# Altium footprint library rcl@1.PCBLIB: 487 footprints (part 19 of 31)
Each footprint in its own frame and in the unit in brackets; x right, y up, seen from the top. Pads: shape width x height; smd on the part's side, far side on the other; paste and mask are expansions set on the pad; w line width, h text height; cw(c..) or ccw(c..) is an arc to the next point about the centre after c.
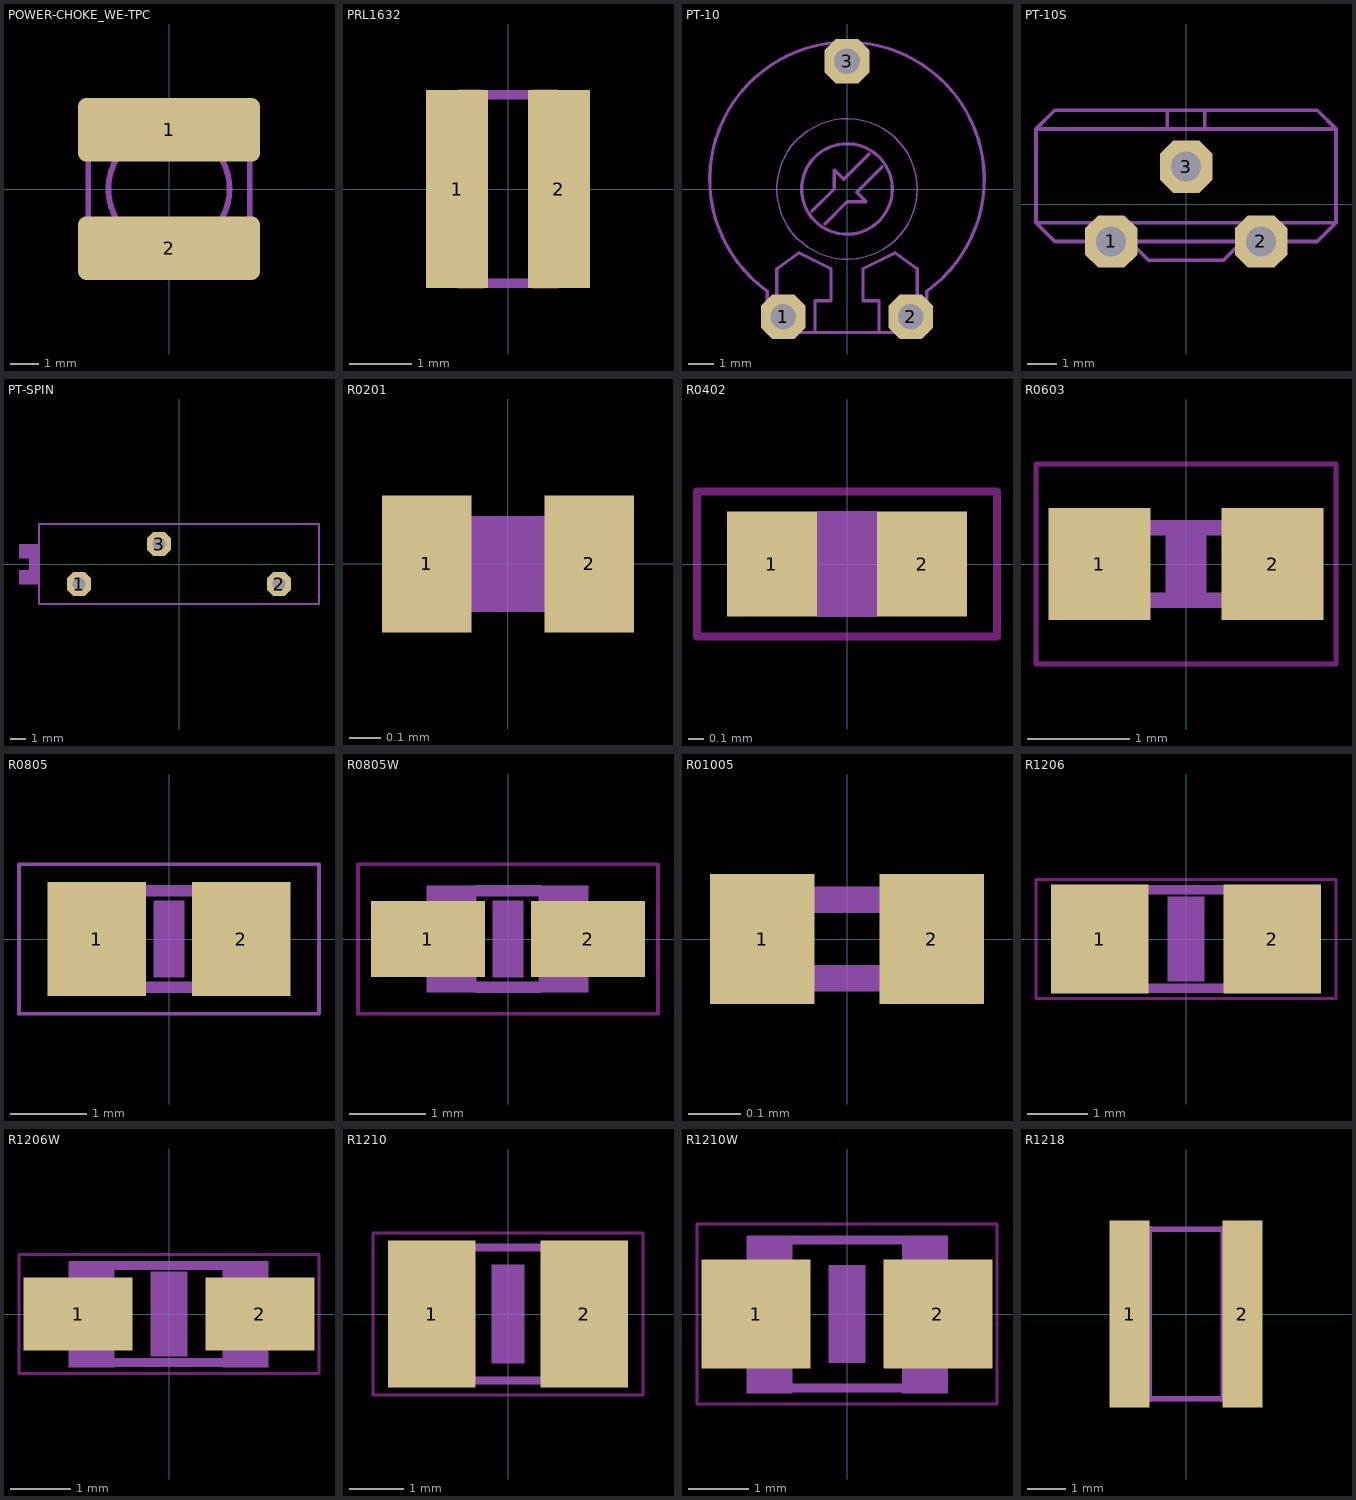
[diagram p18: the footprints below, top view; thin cyan lines are the x and y axes]

## POWER-CHOKE_WE-TPC [mil]
pads (2):
  rrect25% 248.03x86.61 smd: 1(0,80.71) 2(0,-80.71)
tDocu:
  circle w7.87: c0,0 r82.68
  lines w7.87: -110.24,-90.55 ccw(c-90.55,-90.55) -90.55,-110.24 90.55,-110.24 ccw(c90.55,-90.55) 110.24,-90.55 110.24,90.55 ccw(c90.55,90.55) 90.55,110.24 -90.55,110.24 ccw(c-90.55,90.55) -110.24,90.55 -110.24,-90.55
tPlace:
  lines w7.87: -110.24,-25.59 -110.24,25.59 ; -78.74,-25.59 cw(c0,0) -78.74,25.59 ; 78.74,-25.59 ccw(c0,0) 78.74,25.59 ; 110.24,-25.59 110.24,25.59

## PRL1632 [mm]
pads (2):
  rect 1x3.2 smd: 1(-0.822,0) 2(0.822,0)
tDocu:
  region: -0.8,-1.6 -0.8,1.6 -0.4,1.6 -0.4,-1.6
  region: 0.4,-1.6 0.4,1.6 0.8,1.6 0.8,-1.6
  lines w0.152: -0.728,-1.523 0.727,-1.523 ; -0.715,1.523 0.727,1.523

## PT-10 [mil]
pads (3):
  oct 70x70 / inner round 64.67 / far side oct 70x70 hole 40: 1(-100,-200) 2(100,-200) 3(0,200)
tDocu:
  lines w5: -125,-160 -125,-225 125,-225 125,-160 ; -110,-225 -110,-125 ; 110,-225 110,-125
tPlace:
  circle w5: c0,0 r71
  circle w2: c0,0 r110
  lines w5: -125,-160 cw(c0,15) 125,-160 ; -110,-125 -75,-100 -25,-125 -25,-175 -50,-175 -50,-225 ; -55,-35 -20,0 -20,30 -5,15 35,55 ; -35,-55 0,-20 30,-20 15,-5 55,35 ; 50,-225 50,-175 25,-175 25,-125 75,-100 110,-125

## PT-10S [mil]
pads (3):
  oct 70x70 / inner round 64.67 / far side oct 70x70 hole 40: 1(-100,-50) 2(100,-50) 3(0,50)
tDocu:
  lines w5: -200,-25 200,-25 ; -175,-50 175,-50 ; -75,-50 -50,-75 ; 50,-75 75,-50
tPlace:
  lines w5: -175,-50 -200,-25 -200,100 ; -50,-75 50,-75 ; -25,100 -25,125 ; 25,100 25,125 ; 175,-50 200,-25 200,100 ; -200,100 -175,125 175,125 200,100 ; -200,100 200,100

## PT-SPIN [mil]
pads (3):
  oct 60x60 / inner round 55.43 / far side oct 60x60 hole 32: 1(-250,-50) 2(250,-50) 3(-50,50)
tPlace:
  region: -375,-50 -375,50 -350,50 -350,-50
  region: -400,15 -400,50 -375,50 -375,15
  region: -400,-50 -400,-15 -375,-15 -375,-50
  lines w5: -350,-100 350,-100 350,100 -350,100 -350,-100

## R0201 [mm]
pads (2):
  rect 0.28x0.43 smd: 1(-0.255,0) 2(0.255,0)
tDocu:
  region: -0.3,-0.15 -0.3,0.15 -0.15,0.15 -0.15,-0.15
  region: 0.15,-0.15 0.15,0.15 0.3,0.15 0.3,-0.15
tPlace:
  region: -0.15,-0.15 -0.15,0.15 0.15,0.15 0.15,-0.15

## R0402 [mil]
pads (2):
  rect 23.62x27.56 smd: 1(-19.69,0) 2(19.69,0)
Top keep-out:
  lines w2: -39.37,-19.02 39.37,-19.02 39.37,19.02 -39.37,19.02 -39.37,-19.02
tDocu:
  region: -21.81,-12 -21.81,11.62 -10,11.62 -10,-12
  region: 10.19,-12 10.19,11.62 22,11.62 22,-12
  lines w6: -9.65,-8.82 9.65,-8.82 ; -9.65,8.82 9.65,8.82
tGlue:
  region: -7.87,-13.78 -7.87,13.78 7.87,13.78 7.87,-13.78

## R0603 [mm]
pads (2):
  rect 1x1.1 smd: 1(-0.85,0) 2(0.85,0)
Top keep-out:
  lines w0.051: -1.473,-0.983 1.473,-0.983 1.473,0.983 -1.473,0.983 -1.473,-0.983
tDocu:
  region: 0.432,-0.432 0.432,0.432 0.838,0.432 0.838,-0.432
  region: -0.838,-0.432 -0.838,0.432 -0.432,0.432 -0.432,-0.432
  lines w0.152: -0.432,-0.356 0.432,-0.356 ; -0.432,0.356 0.432,0.356
tGlue:
  region: -0.2,-0.4 -0.2,0.4 0.2,0.4 0.2,-0.4

## R0805 [mil]
pads (2):
  rect 51.18x59.06 smd: 1(-37.4,0) 2(37.4,0)
tDocu:
  region: 16,-27.5 16,27.62 41.59,27.62 41.59,-27.5
  region: -42,-27.5 -42,27.62 -16.41,27.62 -16.41,-27.5
  lines w6: -16.14,-25 16.14,-25 ; -16.14,25 16.14,25
tPlace:
  lines w2: -77.68,-38.7 77.68,-38.7 77.68,38.7 -77.68,38.7 -77.68,-38.7
tGlue:
  region: -7.87,-19.69 -7.87,19.69 7.87,19.69 7.87,-19.69

## R0805W [mm]
pads (2):
  rect 1.5x1 smd: 1(-1.053,0) 2(1.053,0)
Top keep-out:
  lines w0.051: -1.973,-0.983 1.973,-0.983 1.973,0.983 -1.973,0.983 -1.973,-0.983
tDocu:
  region: 0.406,-0.699 0.406,0.702 1.056,0.702 1.056,-0.699
  region: -1.067,-0.699 -1.067,0.702 -0.417,0.702 -0.417,-0.699
  lines w0.152: -0.41,-0.635 0.41,-0.635 ; -0.41,0.635 0.41,0.635
tGlue:
  region: -0.2,-0.5 -0.2,0.5 0.2,0.5 0.2,-0.5

## R01005 [mil]
pads (2):
  rect 7.87x9.84 smd: 1(-6.4,0) 2(6.4,0)
tDocu:
  region: -7.87,-3.94 -7.87,3.94 -2.95,3.94 -2.95,-3.94
  region: 2.95,-3.94 2.95,3.94 7.87,3.94 7.87,-3.94
  region: -5.91,1.97 -5.91,3.94 5.91,3.94 5.91,1.97
  region: -5.91,-3.94 -5.91,-1.97 5.91,-1.97 5.91,-3.94

## R1206 [mil]
pads (2):
  rect 62.99x70.98 smd: 1(-55.98,0) 2(55.98,0)
Top keep-out:
  lines w2: -97.36,-38.7 97.36,-38.7 97.36,38.7 -97.36,38.7 -97.36,-38.7
tDocu:
  region: -66.5,-34.5 -66.5,34.5 -37.5,34.5 -37.5,-34.5
  region: 37.5,-34.5 37.5,34.5 66.5,34.5 66.5,-34.5
  lines w6: -38,-32 37.5,-32 ; -38,32 37.5,32
tGlue:
  region: -11.81,-27.56 -11.81,27.56 11.81,27.56 11.81,-27.56

## R1206W [mil]
pads (2):
  rect 70.87x47.24 smd: 1(-59.02,0) 2(59.02,0)
Top keep-out:
  lines w2: -97.36,-38.7 97.36,-38.7 97.36,38.7 -97.36,38.7 -97.36,-38.7
tDocu:
  region: -65,-34.5 -65,34.4 -35.47,34.4 -35.47,-34.5
  region: 35,-34.5 35,34.4 64.53,34.4 64.53,-34.5
  lines w6: -35.94,-31.5 34.96,-31.5 ; -35.94,31.5 34.96,31.5
tGlue:
  region: -11.81,-27.56 -11.81,27.56 11.81,27.56 11.81,-27.56

## R1210 [mil]
pads (2):
  rect 62.99x106.3 smd: 1(-55.12,0) 2(55.12,0)
Top keep-out:
  lines w2: -97.36,-58.39 97.36,-58.39 97.36,58.39 -97.36,58.39 -97.36,-58.39
tDocu:
  region: -65,-51.5 -65,50.86 -35.47,50.86 -35.47,-51.5
  region: 36,-51.5 36,50.86 65.53,50.86 65.53,-51.5
  lines w6: -35.94,-47.99 36.97,-47.99 ; -35.94,47.99 36.97,47.99
tGlue:
  region: -11.81,-35.43 -11.81,35.43 11.81,35.43 11.81,-35.43

## R1210W [mil]
pads (2):
  rect 70.87x70.87 smd: 1(-59.02,0) 2(59.02,0)
Top keep-out:
  lines w2: -97.36,-58.39 97.36,-58.39 97.36,58.39 -97.36,58.39 -97.36,-58.39
tDocu:
  region: -65,-51.5 -65,50.86 -35.47,50.86 -35.47,-51.5
  region: 36,-51.5 36,50.86 65.53,50.86 65.53,-51.5
  lines w6: -35.94,-47.99 36.97,-47.99 ; -35.94,47.99 36.97,47.99
tGlue:
  region: -11.81,-31.5 -11.81,31.5 11.81,31.5 11.81,-31.5

## R1218 [mil]
pads (2):
  rect 41.34x192.91 smd: 1(-58.07,0) 2(58.07,0)
tDocu:
  region: -65,-90.55 -65,90.55 -35.47,90.55 -35.47,-90.55
  region: 36,-90.55 36,90.55 65.53,90.55 65.53,-90.55
  lines w6: -36.97,87.36 35.94,87.36 ; -35.94,-87.36 36.97,-87.36